# EAGLE library part M25C (library ts_kb_mcu)
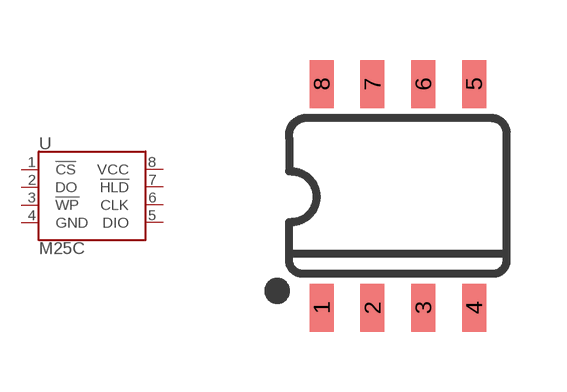
[diagram p1: symbol with the pads of 8-SOIC; footprint 8-SOIC]

Designator prefix -

## M25C  [8-SOIC]
1  !CS
2  DO
3  !WP
4  GND
5  DIO
6  CLK
7  !HLD
8  VCC

## Footprint 8-SOIC (pad centres in mm)
SOIC, 0.15 inch width
smd 0.6 x 1.2: 1 -1.905,-2.8; 2 -0.635,-2.8; 3 0.635,-2.8; 4 1.905,-2.8; 5 1.905,2.8; 6 0.635,2.8; 7 -0.635,2.8; 8 -1.905,2.8